# Altium schematic symbol library AMC1211-Q1.SchLib: 1 symbol
Pins are listed as number, name and electrical type; pins without a type are passive.

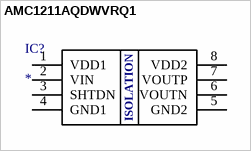
[diagram p0: symbol AMC1211AQDWVRQ1]

## AMC1211AQDWVRQ1
designator IC?
Integrated Circuit; Manufacturer_Name: Texas Instruments; Manufacturer_Part_Number: AMC1211AQDWVRQ1; Description: Automotive High-Impedance; Datasheet Link: http://www.ti.com/lit/gpn/amc1211-q1; Height: 2.8mm; Mouser Part Number: 595-AMC1211AQDWVRQ1; Mouser Price/Stock: https://www.mouser.com/Search/Refine.aspx?Keyword=595-AMC1211AQDWVRQ1
footprint SOIC127P1150X280-8N
pins: 1 VDD1, 2 VIN, 3 SHTDN, 4 GND1, 5 GND2, 6 VOUTN, 7 VOUTP, 8 VDD2
text: ISOLATION